# Altium schematic symbol library USB_3.0.SCHLIB: 1 symbol
Pins are listed as number, name and electrical type; pins without a type are passive.

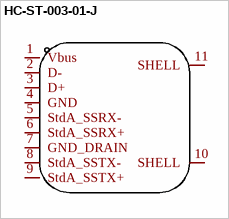
[diagram p0: symbol HC-ST-003-01-J]

## HC-ST-003-01-J
designator USB??  (value not drawn)
Add into BOM: yes; Connector Type: Type-A; Number of Ports: 1; Number of Contacts: 9P; Current Rating - Power (Max): 1.5A; Symbol: HC-ST-003-01-J; Device: HC-ST-003-01-J; Supplier: LCSC; Supplier Part: C2845330; Manufacturer Part: HC-ST-003-01-J; JLCPCB Part Class: Extended Part; Datasheet: https://atta.szlcsc.com/upload/public/pdf/source/20221116/DADAB294700AAF55209BD8638F95257E.pdf; Convert to PCB: yes; Standard: USB 3.0
footprint USB-3.0-A-TH_HC-ST-003-01-Z
pins: 1 Vbus, 2 D-, 3 D+, 4 GND, 5 StdA_SSRX-, 6 StdA_SSRX+, 7 GND_DRAIN, 8 StdA_SSTX-, 9 StdA_SSTX+, 10 SHELL, 11 SHELL